# Altium footprint library universky2.PcbLib: 21 footprints (part 1 of 2)
Each footprint in its own frame and in the unit in brackets; x right, y up, seen from the top. Pads: shape width x height; smd on the part's side, far side on the other; paste and mask are expansions set on the pad; w line width, h text height; cw(c..) or ccw(c..) is an arc to the next point about the centre after c.
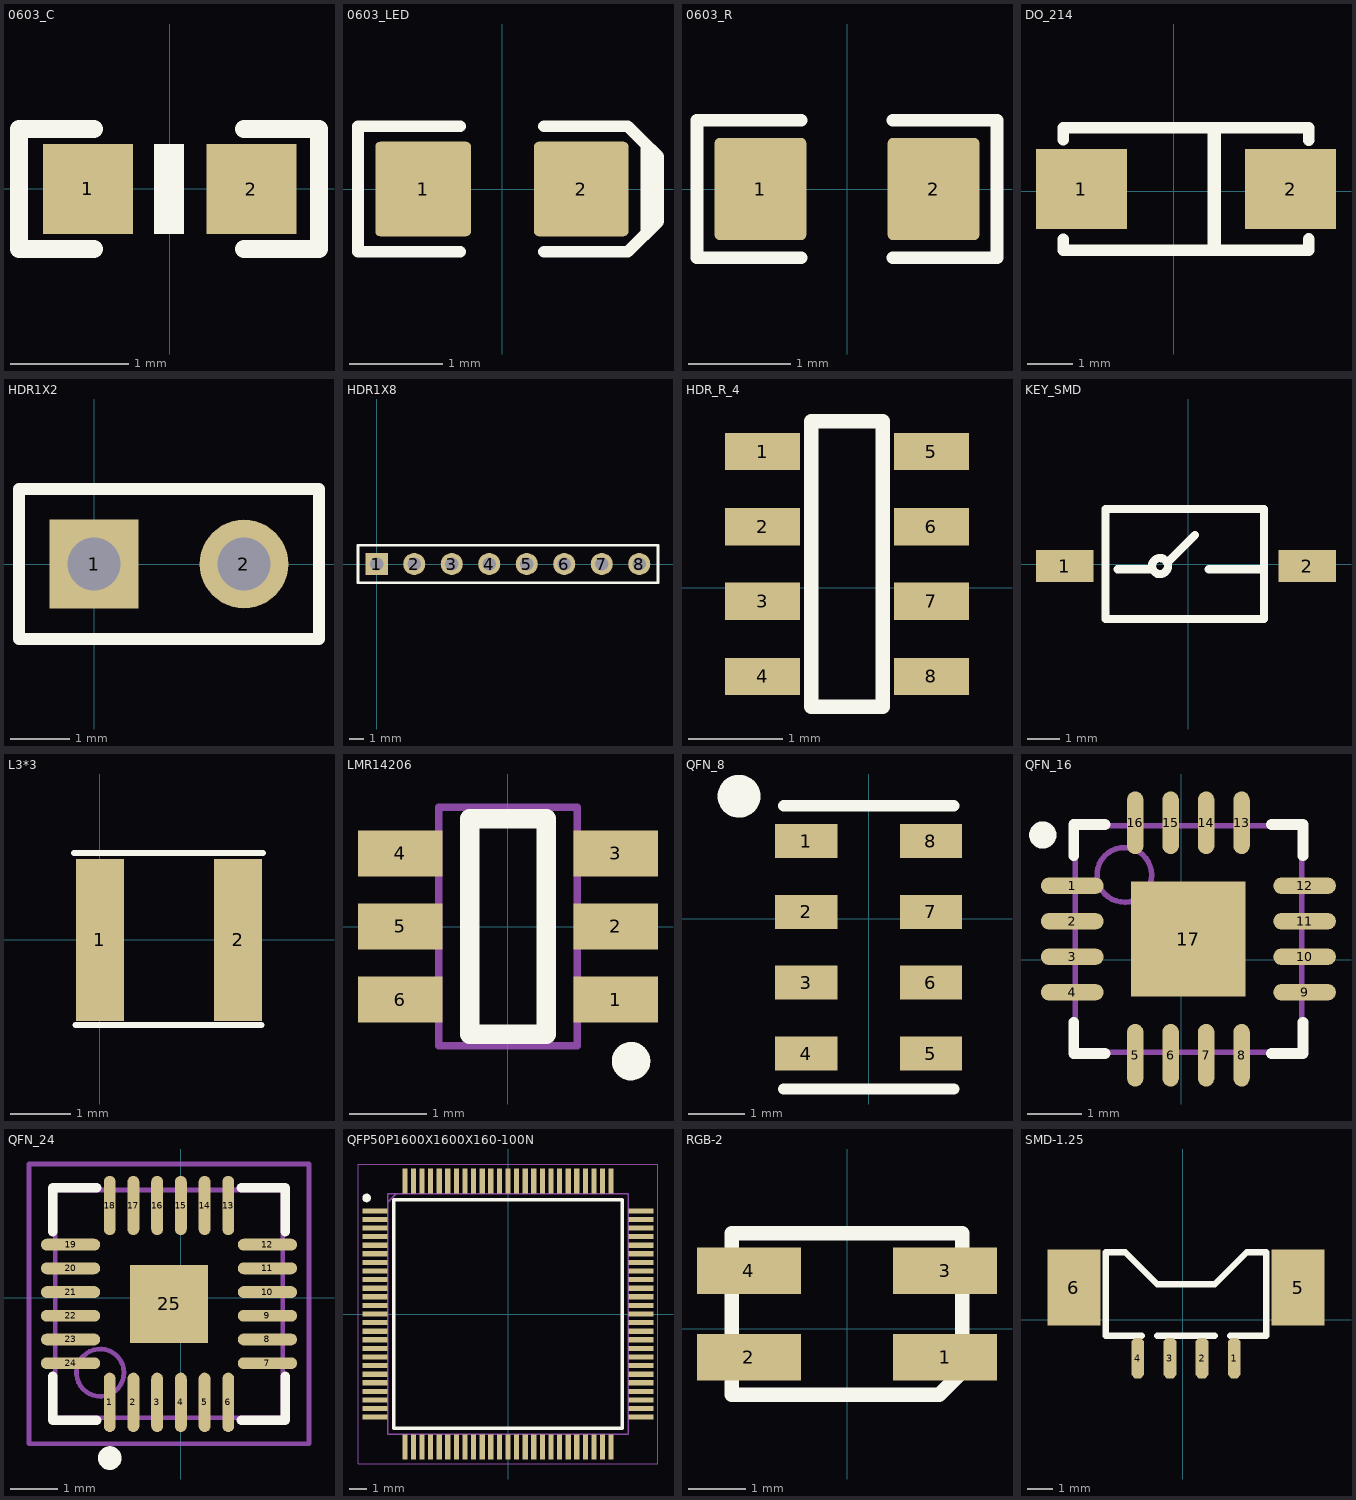
[diagram p0: the footprints below, top view; thin cyan lines are the x and y axes]

## 0603_C [mil]
height 275.98
pads (2):
  rect 30x30 smd: 1(-27.25,0.03) 2(27.25,-0.03)
Top Overlay:
  region: 4.77,-15.01 4.77,14.99 -5.23,14.99 -5.23,-15.01
  lines w6: -25.25,-20.03 -50.25,-20.03 -50.25,19.97 -25.25,19.97 ; 24.75,-20.03 49.75,-20.03 49.75,19.97 24.75,19.97
3D body: height 34.92, standoff -0.51, extent -33.46,-17.71 33.47,17.72

## 0603_LED [mil]
height 275.98
pads (2):
  rrect10% 40.5x40 smd: 1(-33.46,0)
  rrect10% 40x40 smd: 2(33.46,0)
Top Overlay:
  lines w5: -17.72,-26.57 -61.02,-26.57 -61.02,26.57 -17.72,26.57 ; 17.72,-26.57 53.15,-26.57 61.02,-18.7 61.02,18.7 53.15,26.57 17.72,26.57 ; 59.06,20.67 65.94,13.78 65.94,-13.78 60.04,-19.68
3D body: height 29.53, standoff 0, extent -31.49,-15.74 31.5,15.76

## 0603_R [mm]
height 7.01
pads (2):
  rrect10% 0.9x1 smd: 1(-0.85,0) 2(0.85,0)
Top Overlay:
  lines w0.127: -0.45,-0.675 -1.473,-0.675 -1.473,0.675 -0.45,0.675 ; 0.45,-0.675 1.473,-0.675 1.473,0.675 0.45,0.675
3D body: height 0.56, standoff 0, extent -0.85,-0.381 0.85,0.419

## DO_214 [mm]
height 7.01
pads (2):
  rect 2x1.75 smd: 1(-2.032,0.051) 2(2.568,0.051)
Top Overlay:
  lines w0.254: -2.432,-1.054 -2.432,-1.299 2.968,-1.299 2.968,-1.049 ; -2.432,1.131 -2.432,1.401 2.963,1.401 ; 2.968,1.126 2.968,1.401
  lines w0.3: 0.888,-1.249 0.888,1.351
3D body: height 2.12, standoff -0.02, extent -2.23,-1.291 2.876,1.376

## HDR1X2 [mm] "Connector; Header; 2 Position"
height 7.01
pads (2):
  rect 1.5x1.5 hole 0.9: 1(0,0)
  round 1.5 hole 0.9: 2(2.54,0)
Top Overlay:
  lines w0.2: -1.27,-1.27 -1.27,1.27 3.81,1.27 3.81,-1.27 -1.27,-1.27

## HDR1X8 [mm] "Connector; Header; 8 Position"
height 7.01
pads (8):
  rect 1.5x1.5 hole 0.9: 1(0,0)
  round 1.5 hole 0.9: 2(2.54,0) 3(5.08,0) 4(7.62,0) 5(10.16,0) 6(12.7,0) 7(15.24,0) 8(17.78,0)
Top Overlay:
  lines w0.2: -1.27,-1.27 -1.27,1.27 19.05,1.27 19.05,-1.27 -1.27,-1.27

## HDR_R_4 [mm]
height 7.01
pads (8):
  rect 0.8x0.4 smd: 1(-4.075,1.454) 2(-4.075,0.654) 3(-4.075,-0.146) 4(-4.075,-0.946) 5(-2.275,1.454) 6(-2.275,0.654) 7(-2.275,-0.146) 8(-2.275,-0.946)
Top Overlay:
  lines w0.152: -3.556,-1.27 -3.556,1.778 -2.794,1.778 -2.794,-1.27 -3.556,-1.27
3D body: height 0.59, standoff 0.01, extent -3.937,-1.346 -2.337,1.854

## KEY_SMD [mm]
height 7.01
pads (2):
  rect 1.8x1 smd: 1(-3.853,-0.056) 2(3.716,-0.056)
Top Overlay:
  circle w0.254: c-0.881,-0.056 r0.25
  lines w0.254: -2.202,-0.157 -1.313,-0.157 -1.11,-0.157 ; -0.631,0.017 -0.631,-0.056 -0.631,0.067 0.211,0.909 ; 0.643,-0.157 2.243,-0.157 ; -2.583,-1.707 -2.583,1.722 2.37,1.722 2.37,-1.707 -2.583,-1.707
3D body: height 8.02, standoff -0.98, extent -4.043,-1.783 3.957,1.717

## L3*3 [mm]
height 7.01
pads (2):
  rect 0.8x2.7 smd mask+0.051: 1(0,0) 2(2.3,0)
Top Overlay:
  lines w0.102: -0.432,1.448 2.718,1.448 ; -0.406,-1.422 2.692,-1.422

## LMR14206 [mm]
height 7.01
pads (6):
  rect 1.1x0.6 smd: 1(1.4,-0.95) 2(1.4,0) 3(1.4,0.95) 4(-1.4,0.95) 5(-1.4,0) 6(-1.4,-0.95)
Top Overlay:
  circle w0.25: c1.6,-1.75 r0.125
  lines w0.254: -0.5,-1.4 -0.5,1.4 0.5,1.4 0.5,-1.4 -0.5,-1.4
Mechanical 13:
  lines w0.1: -0.9,-1.55 -0.9,1.55 0.9,1.55 0.9,-1.55 -0.9,-1.55

## QFN_8 [mm]
height 7.01
pads (8):
  rect 1.1x0.6 smd: 1(-1.1,1.367) 2(-1.1,0.117) 3(-1.1,-1.133) 4(-1.1,-2.383) 5(1.1,-2.383) 6(1.1,-1.133) 7(1.1,0.117) 8(1.1,1.367)
Top Overlay:
  circle w0.5: c-2.286,2.159 r0.127
  lines w0.2: -1.5,-3.008 1.5,-3.008 ; -1.5,1.992 1.5,1.992
3D body: height 1.01, standoff -0.05, extent -1.55,-3.008 1.55,1.992

## QFN_16 [mm]
height 7.01
pads (17):
  oval 1.15x0.3 smd: 1(-2.002,1.356) 2(-2.002,0.706) 3(-2.002,0.056) 4(-2.002,-0.594) 9(2.256,-0.594) 10(2.256,0.056) 11(2.256,0.706) 12(2.256,1.356)
  oval 0.3x1.15 smd: 5(-0.848,-1.748) 6(-0.198,-1.748) 7(0.452,-1.748) 8(1.102,-1.748) 13(1.102,2.51) 14(0.452,2.51) 15(-0.198,2.51) 16(-0.848,2.51)
  rect 2.1x2.1 smd: 17(0.127,0.381)
Top Overlay:
  circle w0.25: c-2.54,2.286 r0.125
  lines w0.2: -1.973,-1.144 -1.973,-1.719 -1.398,-1.719 ; -1.973,1.906 -1.973,2.481 -1.398,2.481 ; 1.652,-1.719 2.227,-1.719 2.227,-1.144 ; 1.652,2.481 2.227,2.481 2.227,1.906
Mechanical 13:
  circle w0.1: c-1.048,1.556 r0.5
  lines w0.1: -1.948,-1.694 -1.948,2.456 2.202,2.456 2.202,-1.694 -1.948,-1.694
Mechanical 15:
  lines w0.1: -0.373,0.381 0.627,0.381 ; 0.127,-0.119 0.127,0.881
3D body: height 0.85, standoff 0, extent -1.973,-1.719 2.197,2.451

## QFN_24 [mm]
height 7.01
pads (25):
  oval 0.25x1.25 smd: 1(-1.496,-2.202) 2(-0.996,-2.202) 3(-0.496,-2.202) 4(0.004,-2.202) 5(0.504,-2.202) 6(1.004,-2.202) 13(1.004,1.948) 14(0.504,1.948) 15(0.004,1.948) 16(-0.496,1.948) 17(-0.996,1.948) 18(-1.496,1.948)
  oval 1.25x0.25 smd: 7(1.829,-1.377) 8(1.829,-0.877) 9(1.829,-0.377) 10(1.829,0.123) 11(1.829,0.623) 12(1.829,1.123) 19(-2.321,1.123) 20(-2.321,0.623) 21(-2.321,0.123) 22(-2.321,-0.377) 23(-2.321,-0.877) 24(-2.321,-1.377)
  rect 1.651x1.651 smd: 25(-0.246,-0.127)
Top Overlay:
  circle w0.25: c-1.496,-3.377 r0.125
  lines w0.2: -2.696,-1.652 -2.696,-2.577 -1.771,-2.577 ; -2.696,1.398 -2.696,2.323 -1.771,2.323 ; 1.279,-2.577 2.204,-2.577 2.204,-1.652 ; 1.279,2.323 2.204,2.323 2.204,1.398
Mechanical 13:
  circle w0.1: c-1.696,-1.577 r0.5
  lines w0.1: -2.646,-2.527 -2.646,2.273 2.154,2.273 2.154,-2.527 -2.646,-2.527
Mechanical 15:
  lines w0.1: -0.746,-0.127 0.254,-0.127 ; -0.246,-0.627 -0.246,0.373 ; -3.196,-3.077 -3.196,2.823 2.704,2.823 2.704,-3.077 -3.196,-3.077
3D body: height 1, standoff 0, extent -2.246,-2.127 1.754,1.873

## QFP50P1600X1600X160-100N [mm]
height 7.01
pads (100):
  rect 1.475x0.3 smd: 1(-7.738,6) 2(-7.738,5.5) 3(-7.738,5) 4(-7.738,4.5) 5(-7.738,4) 6(-7.738,3.5) 7(-7.738,3) 8(-7.738,2.5) 9(-7.738,2) 10(-7.738,1.5) 11(-7.738,1) 12(-7.738,0.5) 13(-7.738,0) 14(-7.738,-0.5) 15(-7.738,-1) 16(-7.738,-1.5) 17(-7.738,-2) 18(-7.738,-2.5) 19(-7.738,-3) 20(-7.738,-3.5) 21(-7.738,-4) 22(-7.738,-4.5) 23(-7.738,-5) 24(-7.738,-5.5) 25(-7.738,-6) 51(7.738,-6) 52(7.738,-5.5) 53(7.738,-5) 54(7.738,-4.5) 55(7.738,-4) 56(7.738,-3.5) 57(7.738,-3) 58(7.738,-2.5) 59(7.738,-2) 60(7.738,-1.5) 61(7.738,-1) 62(7.738,-0.5) 63(7.738,0) 64(7.738,0.5) 65(7.738,1) 66(7.738,1.5) 67(7.738,2) 68(7.738,2.5) 69(7.738,3) 70(7.738,3.5) 71(7.738,4) 72(7.738,4.5) 73(7.738,5) 74(7.738,5.5) 75(7.738,6)
  rect 0.3x1.475 smd: 26(-6,-7.738) 27(-5.5,-7.738) 28(-5,-7.738) 29(-4.5,-7.738) 30(-4,-7.738) 31(-3.5,-7.738) 32(-3,-7.738) 33(-2.5,-7.738) 34(-2,-7.738) 35(-1.5,-7.738) 36(-1,-7.738) 37(-0.5,-7.738) 38(0,-7.738) 39(0.5,-7.738) 40(1,-7.738) 41(1.5,-7.738) 42(2,-7.738) 43(2.5,-7.738) 44(3,-7.738) 45(3.5,-7.738) 46(4,-7.738) 47(4.5,-7.738) 48(5,-7.738) 49(5.5,-7.738) 50(6,-7.738) 76(6,7.738) 77(5.5,7.738) 78(5,7.738) 79(4.5,7.738) 80(4,7.738) 81(3.5,7.738) 82(3,7.738) 83(2.5,7.738) 84(2,7.738) 85(1.5,7.738) 86(1,7.738) 87(0.5,7.738) 88(0,7.738) 89(-0.5,7.738) 90(-1,7.738) 91(-1.5,7.738) 92(-2,7.738) 93(-2.5,7.738) 94(-3,7.738) 95(-3.5,7.738) 96(-4,7.738) 97(-4.5,7.738) 98(-5,7.738) 99(-5.5,7.738) 100(-6,7.738)
Top Overlay:
  circle w0.25: c-8.225,6.75 r0.125
  lines w0.2: -6.65,-6.65 6.65,-6.65 6.65,6.65 -6.65,6.65 -6.65,-6.65
Mechanical 15:
  lines w0.1: -7,6.5 -6.5,7 ; -7,-7 7,-7 7,7 -7,7 -7,-7
Mechanical 16:
  lines w0.05: -8.725,-8.725 8.725,-8.725 8.725,8.725 -8.725,8.725 -8.725,-8.725

## RGB-2 [mm]
height 7.01
pads (4):
  rect 1.8x0.8 smd: 1(1.7,-0.496) 2(-1.7,-0.496) 3(1.7,1.004) 4(-1.7,1.004)
Top Overlay:
  lines w0.254: -2,-1.146 -2,1.654 0,1.654 2,1.654 2,-0.746 1.6,-1.146 1.5,-1.146 -2,-1.146
3D body: height 1.93, standoff 0.03, extent -1.75,-1.143 1.75,1.657

## SMD-1.25 [mm]
height 7.01
pads (6):
  oct 0.5x1.6 smd: 1(2.032,-1.524) 2(0.762,-1.524) 3(-0.508,-1.524) 4(-1.778,-1.524)
  rect 2.1x3 smd: 5(4.572,1.27) 6(-4.318,1.27)
Top Overlay:
  lines w0.254: -1.625,-0.635 -3.048,-0.635 -3.048,2.667 -2.993,2.667 -2.521,2.667 -2.286,2.667 -1.016,1.397 1.27,1.397 2.54,2.667 3.302,2.667 3.302,-0.635 1.879,-0.635 ; -1.016,-0.635 1.27,-0.635
3D body: height 4.76, standoff -0.04, extent -4.958,-1.588 5.192,2.612